# Altium footprint library OPA310IDCKR.PcbLib: 4 footprints
Each footprint in its own frame and in the unit in brackets; x right, y up, seen from the top. Pads: shape width x height; smd on the part's side, far side on the other; paste and mask are expansions set on the pad; w line width, h text height; cw(c..) or ccw(c..) is an arc to the next point about the centre after c.
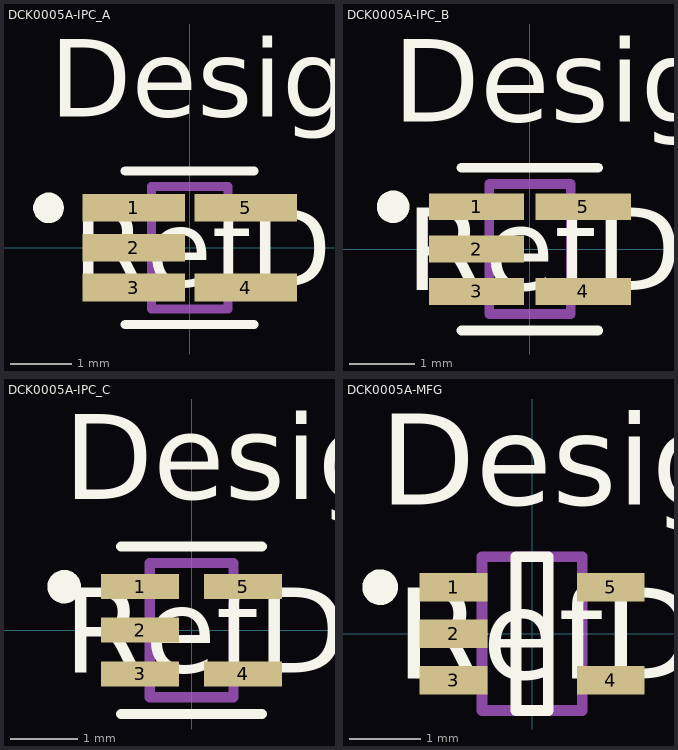
[diagram p0: the footprints below, top view; thin cyan lines are the x and y axes]

## DCK0005A-IPC_A [mm]
pads (5):
  rect 1.677x0.452 smd paste+0 mask+0: 1(-0.914,0.65) 2(-0.914,0) 3(-0.914,-0.65) 4(0.914,-0.65) 5(0.914,0.65)
Top Overlay:
  circle w0.25: c-2.302,0.65 r0.125
  lines w0.15: -1.05,-1.25 1.05,-1.25 ; -1.05,1.25 1.05,1.25
  text "Designator606" at -2.286,2.134 h1.27
  text "RefDes" at -1.905,-0.635 h1.27
Mechanical 13:
  lines w0.15: -0.625,-1 -0.625,1 0.625,1 0.625,-1 -0.625,-1

## DCK0005A-IPC_B [mm]
pads (5):
  rect 1.464x0.412 smd paste+0 mask+0: 1(-0.82,0.65) 2(-0.82,0) 3(-0.82,-0.65) 4(0.82,-0.65) 5(0.82,0.65)
Top Overlay:
  circle w0.25: c-2.102,0.65 r0.125
  lines w0.15: -1.05,-1.25 1.05,-1.25 ; -1.05,1.25 1.05,1.25
  text "Designator605" at -2.108,1.956 h1.27
  text "RefDes" at -1.905,-0.635 h1.27
Mechanical 13:
  lines w0.15: -0.625,-1 -0.625,1 0.625,1 0.625,-1 -0.625,-1

## DCK0005A-IPC_C [mm]
pads (5):
  rect 1.164x0.372 smd paste+0 mask+0: 1(-0.77,0.65) 2(-0.77,0) 3(-0.77,-0.65) 4(0.77,-0.65) 5(0.77,0.65)
Top Overlay:
  circle w0.25: c-1.902,0.65 r0.125
  lines w0.15: -1.05,-1.25 1.05,-1.25 ; -1.05,1.25 1.05,1.25
  text "Designator604" at -1.905,1.956 h1.27
  text "RefDes" at -1.905,-0.635 h1.27
Mechanical 13:
  lines w0.15: -0.625,-1 0.625,-1 0.625,1 -0.625,1 -0.625,-1

## DCK0005A-MFG [mm]
pads (5):
  rect 0.95x0.4 smd paste+0 mask+0: 1(-1.1,0.65) 2(-1.1,0) 3(-1.1,-0.65) 4(1.1,-0.65) 5(1.1,0.65)
Top Overlay:
  circle w0.25: c-2.125,0.65 r0.125
  lines w0.15: -0.225,-1.075 -0.225,1.075 0.225,1.075 0.225,-1.075 -0.225,-1.075
  text "Designator603" at -2.134,1.803 h1.27
  text "RefDes" at -1.905,-0.635 h1.27
Mechanical 13:
  lines w0.15: -0.7,-1.075 -0.7,1.075 0.7,1.075 0.7,-1.075 -0.7,-1.075